# Altium footprint library TI Power Management Linear Regulator Single Channel LDO (400-7500mA).PcbLib: 56 footprints (part 2 of 4)
Each footprint in its own frame and in the unit in brackets; x right, y up, seen from the top. Pads: shape width x height; smd on the part's side, far side on the other; paste and mask are expansions set on the pad; w line width, h text height; cw(c..) or ccw(c..) is an arc to the next point about the centre after c.
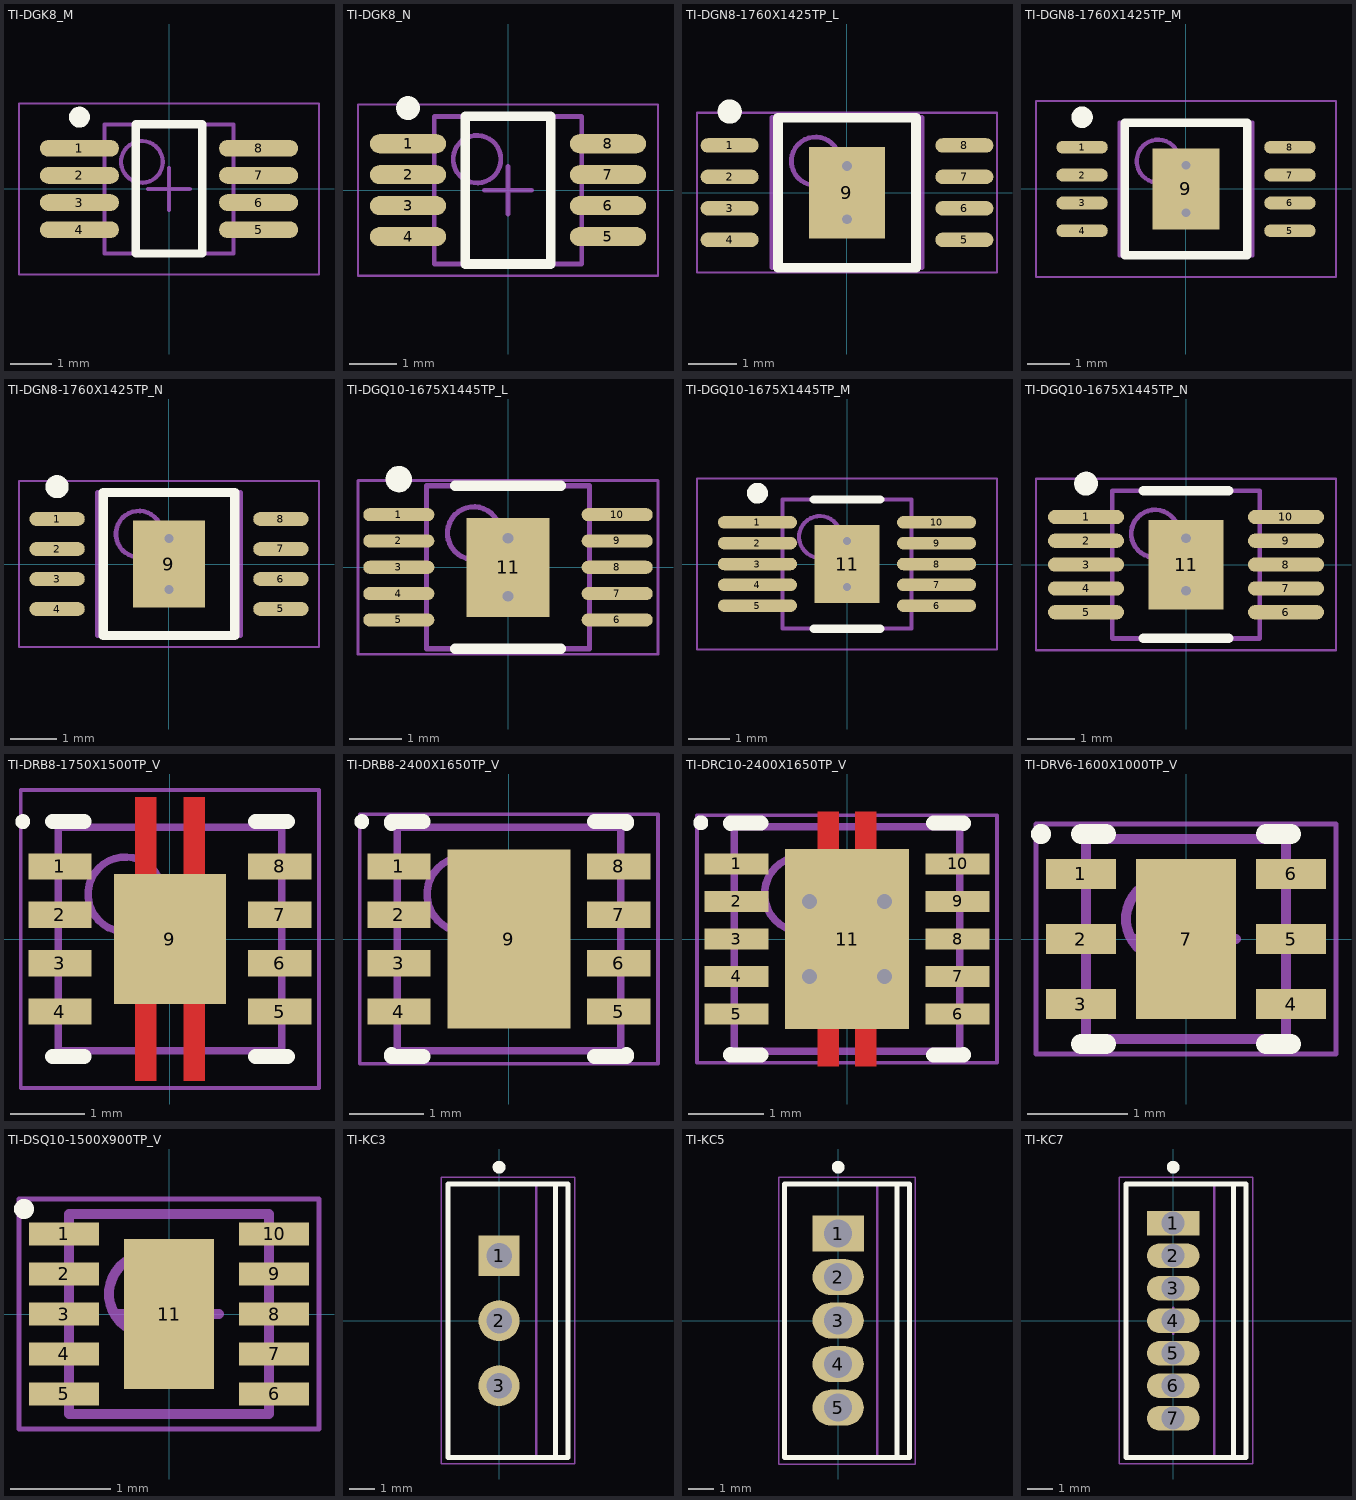
[diagram p1: the footprints below, top view; thin cyan lines are the x and y axes]

## TI-DGK8_M [mm] "SOP, 8-Leads, Body 3x3mm, Pitch 0.65mm, IPC Low Density"
height 1.1
pads (8):
  oval 1.9x0.4 smd: 1(-2.15,0.975) 2(-2.15,0.325) 3(-2.15,-0.325) 4(-2.15,-0.975) 5(2.15,-0.975) 6(2.15,-0.325) 7(2.15,0.325) 8(2.15,0.975)
Top Overlay:
  circle w0.25: c-2.15,1.725 r0.125
  lines w0.2: -0.8,-1.55 -0.8,1.55 0.8,1.55 0.8,-1.55 -0.8,-1.55
Mechanical 13:
  circle w0.1: c-0.65,0.65 r0.5
  lines w0.1: -1.55,-1.55 -1.55,1.55 1.55,1.55 1.55,-1.55 -1.55,-1.55
Mechanical 15:
  lines w0.05: -3.6,-2.05 -3.6,2.05 3.6,2.05 3.6,-2.05 -3.6,-2.05
  lines w0.1: -0.5,0 0.5,0 ; 0,-0.5 0,0.5
3D body: height 1.1, standoff 0.05, extent -1.55,-1.55 1.55,1.55

## TI-DGK8_N [mm] "SOP, 8-Leads, Body 3x3mm, Pitch 0.65mm, IPC Medium Density"
height 1.1
pads (8):
  oval 1.6x0.4 smd: 1(-2.1,0.975) 2(-2.1,0.325) 3(-2.1,-0.325) 4(-2.1,-0.975) 5(2.1,-0.975) 6(2.1,-0.325) 7(2.1,0.325) 8(2.1,0.975)
Top Overlay:
  circle w0.25: c-2.1,1.725 r0.125
  lines w0.2: -0.9,-1.55 0.9,-1.55 0.9,1.55 -0.9,1.55 -0.9,-1.55
Mechanical 13:
  circle w0.1: c-0.65,0.65 r0.5
  lines w0.1: -1.55,-1.55 1.55,-1.55 1.55,1.55 -1.55,1.55 -1.55,-1.55
Mechanical 15:
  lines w0.05: -3.15,-1.8 3.15,-1.8 3.15,1.8 -3.15,1.8 -3.15,-1.8
  lines w0.1: -0.5,0 0.5,0 ; 0,-0.5 0,0.5
3D body: height 1.1, standoff 0.05, extent -1.55,-1.55 1.55,1.55

## TI-DGN8-1760X1425TP_L [mm] "SOIC, 8-Leads, Body 3x3mm, Pitch 0.65mm, Thermal Pad 1.76x1.425mm, IPC High Density"
height 1.1
pads (9):
  oval 1.2x0.3 smd: 1(-2.425,0.975) 2(-2.425,0.325) 3(-2.425,-0.325) 4(-2.425,-0.975) 5(2.425,-0.975) 6(2.425,-0.325) 7(2.425,0.325) 8(2.425,0.975)
  rect 1.57x1.89 smd: 9(0,0)
via 0,-0.55 diameter 0.5 hole 0.2
via 0,0.55 diameter 0.5 hole 0.2
Top Overlay:
  circle w0.25: c-2.425,1.675 r0.125
  lines w0.2: -1.425,-1.55 1.425,-1.55 1.425,1.55 -1.425,1.55 -1.425,-1.55
Mechanical 13:
  circle w0.1: c-0.65,0.65 r0.5
  lines w0.1: -1.55,-1.55 1.55,-1.55 1.55,1.55 -1.55,1.55 -1.55,-1.55
Mechanical 15:
  lines w0.05: -3.1,-1.65 3.1,-1.65 3.1,1.65 -3.1,1.65 -3.1,-1.65
  lines w0.1: -0.5,0 0.5,0 ; 0,-0.5 0,0.5
3D body: height 1.1, standoff 0.05, extent -1.55,-1.55 1.55,1.55

## TI-DGN8-1760X1425TP_M [mm] "SOIC, 8-Leads, Body 3x3mm, Pitch 0.65mm, Thermal Pad 1.76x1.425mm, IPC Low Density"
height 1.1
pads (9):
  oval 1.2x0.3 smd: 1(-2.425,0.975) 2(-2.425,0.325) 3(-2.425,-0.325) 4(-2.425,-0.975) 5(2.425,-0.975) 6(2.425,-0.325) 7(2.425,0.325) 8(2.425,0.975)
  rect 1.57x1.89 smd: 9(0,0)
via 0,-0.55 diameter 0.5 hole 0.2
via 0,0.55 diameter 0.5 hole 0.2
Top Overlay:
  circle w0.25: c-2.425,1.675 r0.125
  lines w0.2: -1.425,-1.55 1.425,-1.55 1.425,1.55 -1.425,1.55 -1.425,-1.55
Mechanical 13:
  circle w0.1: c-0.65,0.65 r0.5
  lines w0.1: -1.55,-1.55 1.55,-1.55 1.55,1.55 -1.55,1.55 -1.55,-1.55
Mechanical 15:
  lines w0.05: -3.5,-2.05 3.5,-2.05 3.5,2.05 -3.5,2.05 -3.5,-2.05
  lines w0.1: -0.5,0 0.5,0 ; 0,-0.5 0,0.5
3D body: height 1.1, standoff 0.05, extent -1.55,-1.55 1.55,1.55

## TI-DGN8-1760X1425TP_N [mm] "SOIC, 8-Leads, Body 3x3mm, Pitch 0.65mm, Thermal Pad 1.76x1.425mm, IPC Medium Density"
height 1.1
pads (9):
  oval 1.2x0.3 smd: 1(-2.425,0.975) 2(-2.425,0.325) 3(-2.425,-0.325) 4(-2.425,-0.975) 5(2.425,-0.975) 6(2.425,-0.325) 7(2.425,0.325) 8(2.425,0.975)
  rect 1.57x1.89 smd: 9(0,0)
via 0,-0.55 diameter 0.5 hole 0.2
via 0,0.55 diameter 0.5 hole 0.2
Top Overlay:
  circle w0.25: c-2.425,1.675 r0.125
  lines w0.2: -1.425,-1.55 1.425,-1.55 1.425,1.55 -1.425,1.55 -1.425,-1.55
Mechanical 13:
  circle w0.1: c-0.65,0.65 r0.5
  lines w0.1: -1.55,-1.55 1.55,-1.55 1.55,1.55 -1.55,1.55 -1.55,-1.55
Mechanical 15:
  lines w0.05: -3.25,-1.8 3.25,-1.8 3.25,1.8 -3.25,1.8 -3.25,-1.8
  lines w0.1: -0.5,0 0.5,0 ; 0,-0.5 0,0.5
3D body: height 1.1, standoff 0.05, extent -1.55,-1.55 1.55,1.55

## TI-DGQ10-1675X1445TP_L [mm] "SOP, 10-Leads, Body 3.0x3.0mm, Pitch 0.5mm, Thermal Pad 1.675X1.445mm, IPC High Density"
height 1.1
pads (11):
  oval 1.35x0.25 smd: 1(-2.075,1) 2(-2.075,0.5) 3(-2.075,0) 4(-2.075,-0.5) 5(-2.075,-1) 6(2.075,-1) 7(2.075,-0.5) 8(2.075,0) 9(2.075,0.5) 10(2.075,1)
  rect 1.57x1.88 smd: 11(0,0)
via 0,0.55 diameter 0.5 hole 0.2
via 0,-0.55 diameter 0.5 hole 0.2
Top Overlay:
  circle w0.25: c-2.075,1.675 r0.125
  lines w0.2: -1,-1.55 1,-1.55 ; -1,1.55 1,1.55
Mechanical 13:
  circle w0.1: c-0.65,0.65 r0.5
  lines w0.1: -1.55,-1.55 -1.55,1.55 1.55,1.55 1.55,-1.55 -1.55,-1.55
Mechanical 15:
  lines w0.05: -2.85,-1.65 -2.85,1.65 2.85,1.65 2.85,-1.65 -2.85,-1.65
  lines w0.1: -0.5,0 0.5,0 ; 0,-0.5 0,0.5
3D body: height 1.1, standoff 0.05, extent -1.55,-1.55 1.55,1.55

## TI-DGQ10-1675X1445TP_M [mm] "SOP, 10-Leads, Body 3.0x3.0mm, Pitch 0.5mm, Thermal Pad 1.675X1.445mm, IPC Low Density"
height 1.1
pads (11):
  oval 1.9x0.3 smd: 1(-2.15,1) 2(-2.15,0.5) 3(-2.15,0) 4(-2.15,-0.5) 5(-2.15,-1) 6(2.15,-1) 7(2.15,-0.5) 8(2.15,0) 9(2.15,0.5) 10(2.15,1)
  rect 1.57x1.88 smd: 11(0,0)
via 0,0.55 diameter 0.5 hole 0.2
via 0,-0.55 diameter 0.5 hole 0.2
Top Overlay:
  circle w0.25: c-2.15,1.7 r0.125
  lines w0.2: -0.8,-1.55 0.8,-1.55 ; -0.8,1.55 0.8,1.55
Mechanical 13:
  circle w0.1: c-0.65,0.65 r0.5
  lines w0.1: -1.55,-1.55 -1.55,1.55 1.55,1.55 1.55,-1.55 -1.55,-1.55
Mechanical 15:
  lines w0.05: -3.6,-2.05 -3.6,2.05 3.6,2.05 3.6,-2.05 -3.6,-2.05
  lines w0.1: -0.5,0 0.5,0 ; 0,-0.5 0,0.5
3D body: height 1.1, standoff 0.05, extent -1.55,-1.55 1.55,1.55

## TI-DGQ10-1675X1445TP_N [mm] "SOP, 10-Leads, Body 3.0x3.0mm, Pitch 0.5mm, Thermal Pad 1.675X1.445mm, IPC Medium Density"
height 1.1
pads (11):
  oval 1.6x0.3 smd: 1(-2.1,1) 2(-2.1,0.5) 3(-2.1,0) 4(-2.1,-0.5) 5(-2.1,-1) 6(2.1,-1) 7(2.1,-0.5) 8(2.1,0) 9(2.1,0.5) 10(2.1,1)
  rect 1.57x1.88 smd: 11(0,0)
via 0,-0.55 diameter 0.5 hole 0.2
via 0,0.55 diameter 0.5 hole 0.2
Top Overlay:
  circle w0.25: c-2.1,1.7 r0.125
  lines w0.2: -0.9,-1.55 0.9,-1.55 ; -0.9,1.55 0.9,1.55
Mechanical 13:
  circle w0.1: c-0.65,0.65 r0.5
  lines w0.1: -1.55,-1.55 1.55,-1.55 1.55,1.55 -1.55,1.55 -1.55,-1.55
Mechanical 15:
  lines w0.05: -3.15,-1.8 3.15,-1.8 3.15,1.8 -3.15,1.8 -3.15,-1.8
  lines w0.1: -0.5,0 0.5,0 ; 0,-0.5 0,0.5
3D body: height 1.1, standoff 0.05, extent -1.55,-1.55 1.55,1.55

## TI-DRB8-1750X1500TP_V [mm] "SON, 8-Leads, Body 3x3mm, Pitch 0.65mm, Thermal Pad 1.50 x 3.8mm"
height 1
pads (9):
  rect 0.85x0.35 smd: 1(-1.475,0.975) 2(-1.475,0.325) 3(-1.475,-0.325) 4(-1.475,-0.975) 5(1.475,-0.975) 6(1.475,-0.325) 7(1.475,0.325) 8(1.475,0.975)
  rect 1.5x1.75 smd: 9(0,0)
Top Layer:
  region: 0.185,0.875 0.185,1.9 0.465,1.9 0.465,0.875
  region: -0.185,-0.875 -0.185,-1.9 -0.465,-1.9 -0.465,-0.875
  region: 0.185,-0.875 0.185,-1.9 0.465,-1.9 0.465,-0.875
  region: -0.185,0.875 -0.185,1.9 -0.465,1.9 -0.465,0.875
Top Overlay:
  circle w0.1: c-1.975,1.575 r0.05
  lines w0.2: -1.575,-1.575 -1.15,-1.575 ; -1.575,1.575 -1.15,1.575 ; 1.15,-1.575 1.575,-1.575 ; 1.15,1.575 1.575,1.575
Top Paste:
  region: -0.185,0.875 -0.185,1.9 -0.465,1.9 -0.465,0.875
  region: 0.185,-0.875 0.185,-1.9 0.465,-1.9 0.465,-0.875
  region: -0.185,-0.875 -0.185,-1.9 -0.465,-1.9 -0.465,-0.875
  region: 0.185,0.875 0.185,1.9 0.465,1.9 0.465,0.875
Mechanical 13:
  circle w0.1: c-0.6,0.6 r0.5
  lines w0.1: -1.5,-1.5 -1.5,1.5 1.5,1.5 1.5,-1.5 -1.5,-1.5
Mechanical 15:
  lines w0.05: -2,-2 2,-2 2,-1.675 2,1.675 2,2 -2,2 -2,1.675 -2,-1.675 -2,-2
  lines w0.1: -0.5,0 0.5,0 ; 0,-0.5 0,0.5
3D body: height 1, standoff 0, extent -1.5,-1.5 1.5,1.5

## TI-DRB8-2400X1650TP_V [mm] "SON, 8-Leads, Body 3x3mm, Pitch 0.65mm, Thermal Pad 2.4x1.65mm"
height 1
pads (9):
  rect 0.85x0.35 smd: 1(-1.475,0.975) 2(-1.475,0.325) 3(-1.475,-0.325) 4(-1.475,-0.975) 5(1.475,-0.975) 6(1.475,-0.325) 7(1.475,0.325) 8(1.475,0.975)
  rect 1.65x2.4 smd: 9(0,0)
Top Overlay:
  circle w0.1: c-1.975,1.575 r0.05
  lines w0.2: -1.575,-1.55 -1.575,-1.575 -1.15,-1.575 ; -1.575,1.55 -1.575,1.575 -1.15,1.575 ; 1.15,-1.575 1.575,-1.575 1.575,-1.55 ; 1.15,1.575 1.575,1.575 1.575,1.55
Mechanical 13:
  circle w0.1: c-0.6,0.6 r0.5
  lines w0.1: -1.5,-1.5 1.5,-1.5 1.5,1.5 -1.5,1.5 -1.5,-1.5
Mechanical 15:
  lines w0.05: -2,-1.675 2,-1.675 2,1.675 -2,1.675 -2,-1.675
  lines w0.1: -0.5,0 0.5,0 ; 0,-0.5 0,0.5
3D body: height 1, standoff 0, extent -1.5,-1.5 1.5,1.5

## TI-DRC10-2400X1650TP_V [mm] "SON, 10-Leads, Body 3x3mm, Pitch 0.5mm, Thermal Pad 3x1.65mm"
height 1
pads (11):
  rect 0.85x0.28 smd: 1(-1.475,1) 2(-1.475,0.5) 3(-1.475,0) 4(-1.475,-0.5) 5(-1.475,-1) 6(1.475,-1) 7(1.475,-0.5) 8(1.475,0) 9(1.475,0.5) 10(1.475,1)
  rect 1.65x2.4 smd: 11(0,0)
via 0.5,-0.5 diameter 0.5 hole 0.2
via -0.5,-0.5 diameter 0.5 hole 0.2
via 0.5,0.5 diameter 0.5 hole 0.2
via -0.5,0.5 diameter 0.5 hole 0.2
Top Layer:
  region: 0.11,1.2 0.11,1.7 0.39,1.7 0.39,1.2
  region: -0.11,-1.2 -0.11,-1.7 -0.39,-1.7 -0.39,-1.2
  region: 0.11,-1.2 0.11,-1.7 0.39,-1.7 0.39,-1.2
  region: -0.11,1.2 -0.11,1.7 -0.39,1.7 -0.39,1.2
Top Overlay:
  circle w0.1: c-1.95,1.55 r0.05
  lines w0.2: -1.55,-1.54 -1.55,-1.55 -1.15,-1.55 ; -1.55,1.54 -1.55,1.55 -1.15,1.55 ; 1.15,-1.55 1.55,-1.55 1.55,-1.54 ; 1.15,1.55 1.55,1.55 1.55,1.54
Top Paste:
  region: 0.11,1.2 0.11,1.7 0.39,1.7 0.39,1.2
  region: -0.11,-1.2 -0.11,-1.7 -0.39,-1.7 -0.39,-1.2
  region: 0.11,-1.2 0.11,-1.7 0.39,-1.7 0.39,-1.2
  region: -0.11,1.2 -0.11,1.7 -0.39,1.7 -0.39,1.2
Mechanical 13:
  circle w0.1: c-0.6,0.6 r0.5
  lines w0.1: -1.5,-1.5 1.5,-1.5 1.5,1.5 -1.5,1.5 -1.5,-1.5
Mechanical 15:
  lines w0.05: -2,-1.65 2,-1.65 2,1.65 -2,1.65 -2,-1.65
  lines w0.1: -0.5,0 0.5,0 ; 0,-0.5 0,0.5
3D body: height 1, standoff 0, extent -1.5,-1.5 1.5,1.5

## TI-DRV6-1600X1000TP_V [mm] "SON, 6-Leads, Body 2x2mm, Pitch 0.65mm, Thermal Pad 1X1.6mm"
height 0.8
pads (7):
  rect 0.7x0.3 smd: 1(-1.05,0.65) 2(-1.05,0) 3(-1.05,-0.65) 4(1.05,-0.65) 5(1.05,0) 6(1.05,0.65)
  rect 1x1.6 smd: 7(0,0)
Top Overlay:
  circle w0.1: c-1.45,1.05 r0.05
  lines w0.2: -1.05,-1.05 -0.8,-1.05 ; -1.05,1.05 -0.8,1.05 ; 0.8,-1.05 1.05,-1.05 ; 0.8,1.05 1.05,1.05
Mechanical 13:
  circle w0.1: c-0.2,0.2 r0.4
  lines w0.1: -1,-1 -1,1 1,1 1,-1 -1,-1
Mechanical 15:
  lines w0.05: -1.5,-1.15 -1.5,1.15 1.5,1.15 1.5,-1.15 -1.5,-1.15
  lines w0.1: -0.5,0 0.5,0 ; 0,-0.5 0,0.5
3D body: height 0.8, standoff 0, extent -1,-1 1,1

## TI-DSQ10-1500X900TP_V [mm] "SON, 10-Leads, Body 2x2mm, Pitch 0.4mm, Thermal Pad 1.5x0.9mm"
height 0.8
pads (11):
  rect 0.7x0.23 smd: 1(-1.05,0.8) 2(-1.05,0.4) 3(-1.05,0) 4(-1.05,-0.4) 5(-1.05,-0.8) 6(1.05,-0.8) 7(1.05,-0.4) 8(1.05,0) 9(1.05,0.4) 10(1.05,0.8)
  rect 0.9x1.5 smd: 11(0,0)
Top Overlay:
  circle w0.1: c-1.45,1.05 r0.05
Mechanical 13:
  circle w0.1: c-0.2,0.2 r0.4
  lines w0.1: -1,-1 1,-1 1,1 -1,1 -1,-1
Mechanical 15:
  lines w0.05: -1.5,-1.15 1.5,-1.15 1.5,1.15 -1.5,1.15 -1.5,-1.15
  lines w0.1: -0.5,0 0.5,0 ; 0,-0.5 0,0.5
3D body: height 0.8, standoff 0, extent -1,-1 1,1

## TI-KC3 [mm] "Flange Mount, 3-Leads, Body 10.16x4.51mm, Pitch 2.54mm"
height 22.86
pads (3):
  rect 1.6x1.6 hole 1: 1(0,2.54)
  round 1.6 hole 1: 2(0,0) 3(0,-2.54)
Top Overlay:
  circle w0.25: c0,6 r0.125
  lines w0.2: 2.2,-5.35 2.2,5.35 ; -2,-5.35 2.7,-5.35 2.7,5.35 -2,5.35 -2,-5.35
Mechanical 13:
  lines w0.1: 1.45,-5.35 1.45,5.35 ; -2,-5.35 -2,5.35 2.7,5.35 2.7,-5.35 -2,-5.35
Mechanical 15:
  lines w0.05: -2.25,-5.6 -2.25,5.6 2.95,5.6 2.95,-5.6 -2.25,-5.6
  lines w0.1: -0.5,0 0.5,0 ; 0,-0.5 0,0.5
3D body: height 6.35, standoff 0, extent -0.23,1.81 0.23,3.27
3D body: height 0, standoff -1.6, extent -0.23,2.14 0.23,2.94
3D body: height 6.35, standoff 0, extent -0.23,-0.73 0.23,0.73
3D body: height 0, standoff -1.6, extent -0.23,-0.4 0.23,0.4
3D body: height 6.35, standoff 0, extent -0.23,-3.27 0.23,-1.81
3D body: height 0, standoff -1.6, extent -0.23,-2.94 0.23,-2.14
3D body: height 16.51, standoff 6.35, extent -2,-5.35 2.7,5.35
3D body: height 18.14, standoff 16.51, extent 1.45,-5.075 2.7,5.075
3D body: height 18.18, standoff 18.14, extent 1.45,0.376 2.7,5.075
3D body: height 18.18, standoff 18.14, extent 1.45,-5.075 2.7,-0.376
3D body: height 21.99, standoff 21.95, extent 1.45,0.376 2.7,5.075
3D body: height 21.99, standoff 21.95, extent 1.45,-5.075 2.7,-0.376
3D body: height 18.29, standoff 18.17, extent 1.45,0.737 2.7,5.075
3D body: height 18.29, standoff 18.17, extent 1.45,-5.075 2.7,-0.737
3D body: height 21.95, standoff 21.84, extent 1.45,0.737 2.7,5.075
3D body: height 21.95, standoff 21.84, extent 1.45,-5.075 2.7,-0.737
3D body: height 18.46, standoff 18.28, extent 1.45,1.069 2.7,5.075
3D body: height 18.46, standoff 18.28, extent 1.45,-5.075 2.7,-1.069
3D body: height 21.84, standoff 21.66, extent 1.45,1.069 2.7,5.075
3D body: height 21.84, standoff 21.66, extent 1.45,-5.075 2.7,-1.069
3D body: height 18.7, standoff 18.46, extent 1.45,1.361 2.7,5.075
3D body: height 18.7, standoff 18.46, extent 1.45,-5.075 2.7,-1.361
3D body: height 21.67, standoff 21.42, extent 1.45,1.361 2.7,5.075
3D body: height 21.67, standoff 21.42, extent 1.45,-5.075 2.7,-1.361
3D body: height 19, standoff 18.7, extent 1.45,1.601 2.7,5.075
3D body: height 19, standoff 18.7, extent 1.45,-5.075 2.7,-1.601
3D body: height 21.43, standoff 21.13, extent 1.45,1.601 2.7,5.075
3D body: height 21.43, standoff 21.13, extent 1.45,-5.075 2.7,-1.601
3D body: height 19.33, standoff 18.99, extent 1.45,1.778 2.7,5.075
3D body: height 19.33, standoff 18.99, extent 1.45,-5.075 2.7,-1.778
3D body: height 21.13, standoff 20.8, extent 1.45,1.778 2.7,5.075
3D body: height 21.13, standoff 20.8, extent 1.45,-5.075 2.7,-1.778
3D body: height 19.69, standoff 19.32, extent 1.45,1.888 2.7,5.075
3D body: height 19.69, standoff 19.32, extent 1.45,-5.075 2.7,-1.888
3D body: height 20.8, standoff 20.44, extent 1.45,1.888 2.7,5.075
3D body: height 20.8, standoff 20.44, extent 1.45,-5.075 2.7,-1.888
3D body: height 20.06, standoff 19.68, extent 1.45,1.925 2.7,5.075
3D body: height 20.06, standoff 19.68, extent 1.45,-5.075 2.7,-1.925
3D body: height 20.44, standoff 20.06, extent 1.45,1.925 2.7,5.075
3D body: height 20.44, standoff 20.06, extent 1.45,-5.075 2.7,-1.925
3D body: height 22.86, standoff 21.99, extent 1.45,-5.075 2.7,5.075

## TI-KC5 [mm] "FM, 5-Leads, Body 10.16x8.46mm, Pitch 1.7mm,"
height 16.51
pads (5):
  rect 2x1.4 hole 1.1: 1(0,3.405)
  oval 2x1.4 hole 1.1: 2(0,1.705) 3(0,0.005) 4(0,-1.695) 5(0,-3.395)
Top Overlay:
  circle w0.25: c0,6 r0.125
  lines w0.2: 2.295,-5.35 2.295,5.35 ; -2.105,-5.35 2.795,-5.35 2.795,5.35 -2.105,5.35 -2.105,-5.35
Mechanical 13:
  lines w0.1: 1.52,-5.35 1.52,5.35 ; -2.08,-5.35 -2.08,5.35 2.77,5.35 2.77,-5.35 -2.08,-5.35
Mechanical 15:
  lines w0.05: -2.33,-5.6 -2.33,5.6 3.02,5.6 3.02,-5.6 -2.33,-5.6
  lines w0.1: -0.5,0 0.5,0 ; 0,-0.5 0,0.5
3D body: height 0, standoff -1.6, extent -0.23,2.99 0.23,3.82
3D body: height 0, standoff -1.6, extent -0.23,1.29 0.23,2.12
3D body: height 0, standoff -1.6, extent -0.23,-0.41 0.23,0.42
3D body: height 0, standoff -1.6, extent -0.23,-2.11 0.23,-1.28
3D body: height 0, standoff -1.6, extent -0.23,-3.81 0.23,-2.98
3D body: height 10.21, standoff 0, extent -2.08,-5.35 2.77,5.35
3D body: height 11.79, standoff 10.21, extent 1.52,-5.075 2.77,5.075
3D body: height 11.83, standoff 11.79, extent 1.52,0.376 2.77,5.075
3D body: height 11.83, standoff 11.79, extent 1.52,-5.075 2.77,-0.376
3D body: height 15.64, standoff 15.6, extent 1.52,0.376 2.77,5.075
3D body: height 15.64, standoff 15.6, extent 1.52,-5.075 2.77,-0.376
3D body: height 11.94, standoff 11.82, extent 1.52,0.737 2.77,5.075
3D body: height 11.94, standoff 11.82, extent 1.52,-5.075 2.77,-0.737
3D body: height 15.6, standoff 15.49, extent 1.52,0.737 2.77,5.075
3D body: height 15.6, standoff 15.49, extent 1.52,-5.075 2.77,-0.737
3D body: height 12.11, standoff 11.93, extent 1.52,1.069 2.77,5.075
3D body: height 12.11, standoff 11.93, extent 1.52,-5.075 2.77,-1.069
3D body: height 15.49, standoff 15.31, extent 1.52,1.069 2.77,5.075
3D body: height 15.49, standoff 15.31, extent 1.52,-5.075 2.77,-1.069
3D body: height 12.35, standoff 12.11, extent 1.52,1.361 2.77,5.075
3D body: height 12.35, standoff 12.11, extent 1.52,-5.075 2.77,-1.361
3D body: height 15.32, standoff 15.07, extent 1.52,1.361 2.77,5.075
3D body: height 15.32, standoff 15.07, extent 1.52,-5.075 2.77,-1.361
3D body: height 12.65, standoff 12.35, extent 1.52,1.601 2.77,5.075
3D body: height 12.65, standoff 12.35, extent 1.52,-5.075 2.77,-1.601
3D body: height 15.08, standoff 14.78, extent 1.52,1.601 2.77,5.075
3D body: height 15.08, standoff 14.78, extent 1.52,-5.075 2.77,-1.601
3D body: height 12.98, standoff 12.64, extent 1.52,1.778 2.77,5.075
3D body: height 12.98, standoff 12.64, extent 1.52,-5.075 2.77,-1.778
3D body: height 14.78, standoff 14.45, extent 1.52,1.778 2.77,5.075
3D body: height 14.78, standoff 14.45, extent 1.52,-5.075 2.77,-1.778
3D body: height 13.34, standoff 12.97, extent 1.52,1.888 2.77,5.075
3D body: height 13.34, standoff 12.97, extent 1.52,-5.075 2.77,-1.888
3D body: height 14.45, standoff 14.09, extent 1.52,1.888 2.77,5.075
3D body: height 14.45, standoff 14.09, extent 1.52,-5.075 2.77,-1.888
3D body: height 13.71, standoff 13.33, extent 1.52,1.925 2.77,5.075
3D body: height 13.71, standoff 13.33, extent 1.52,-5.075 2.77,-1.925
3D body: height 14.09, standoff 13.71, extent 1.52,1.925 2.77,5.075
3D body: height 14.09, standoff 13.71, extent 1.52,-5.075 2.77,-1.925
3D body: height 16.51, standoff 15.64, extent 1.52,-5.075 2.77,5.075

## TI-KC7 [mm] "Flange Mount, 7-Leads, Body 10.16x4.58mm, Pitch 1.27mm"
height 15.11
pads (7):
  rect 2.05x0.95 hole 0.9: 1(0,3.81)
  oval 2.05x0.95 hole 0.9: 2(0,2.54) 3(0,1.27) 4(0,0) 5(0,-1.27) 6(0,-2.54) 7(0,-3.81)
Top Overlay:
  circle w0.25: c0,6 r0.125
  lines w0.2: 2.35,-5.35 2.35,5.35 ; -1.85,-5.35 -1.85,5.35 2.85,5.35 2.85,-5.35 -1.85,-5.35
Mechanical 13:
  lines w0.1: 1.6,-5.35 1.6,5.35 ; -1.85,-5.35 2.85,-5.35 2.85,5.35 -1.85,5.35 -1.85,-5.35
Mechanical 15:
  lines w0.05: -2.1,-5.6 3.1,-5.6 3.1,5.6 -2.1,5.6 -2.1,-5.6
  lines w0.1: -0.5,0 0.5,0 ; 0,-0.5 0,0.5
3D body: height 15.11, standoff 14.29, extent 1.6,-5.075 2.85,5.075
3D body: height 12.74, standoff 12.36, extent 1.6,-5.075 2.85,-1.925
3D body: height 12.74, standoff 12.36, extent 1.6,1.925 2.85,5.075
3D body: height 12.36, standoff 11.98, extent 1.6,-5.075 2.85,-1.925
3D body: height 12.36, standoff 11.98, extent 1.6,1.925 2.85,5.075
3D body: height 13.1, standoff 12.74, extent 1.6,-5.075 2.85,-1.888
3D body: height 13.1, standoff 12.74, extent 1.6,1.888 2.85,5.075
3D body: height 11.99, standoff 11.62, extent 1.6,-5.075 2.85,-1.888
3D body: height 11.99, standoff 11.62, extent 1.6,1.888 2.85,5.075
3D body: height 13.43, standoff 13.1, extent 1.6,-5.075 2.85,-1.778
3D body: height 13.43, standoff 13.1, extent 1.6,1.778 2.85,5.075
3D body: height 11.63, standoff 11.29, extent 1.6,-5.075 2.85,-1.778
3D body: height 11.63, standoff 11.29, extent 1.6,1.778 2.85,5.075
3D body: height 13.73, standoff 13.43, extent 1.6,-5.075 2.85,-1.601
3D body: height 13.73, standoff 13.43, extent 1.6,1.601 2.85,5.075
3D body: height 11.3, standoff 11, extent 1.6,-5.075 2.85,-1.601
3D body: height 11.3, standoff 11, extent 1.6,1.601 2.85,5.075
3D body: height 13.97, standoff 13.72, extent 1.6,-5.075 2.85,-1.361
3D body: height 13.97, standoff 13.72, extent 1.6,1.361 2.85,5.075
3D body: height 11, standoff 10.76, extent 1.6,-5.075 2.85,-1.361
3D body: height 11, standoff 10.76, extent 1.6,1.361 2.85,5.075
3D body: height 14.14, standoff 13.96, extent 1.6,-5.075 2.85,-1.069
3D body: height 14.14, standoff 13.96, extent 1.6,1.069 2.85,5.075
3D body: height 10.76, standoff 10.58, extent 1.6,-5.075 2.85,-1.069
3D body: height 10.76, standoff 10.58, extent 1.6,1.069 2.85,5.075
3D body: height 14.25, standoff 14.14, extent 1.6,-5.075 2.85,-0.737
3D body: height 14.25, standoff 14.14, extent 1.6,0.737 2.85,5.075
3D body: height 10.59, standoff 10.47, extent 1.6,-5.075 2.85,-0.737
3D body: height 10.59, standoff 10.47, extent 1.6,0.737 2.85,5.075
3D body: height 14.29, standoff 14.25, extent 1.6,-5.075 2.85,-0.376
3D body: height 14.29, standoff 14.25, extent 1.6,0.376 2.85,5.075
3D body: height 10.48, standoff 10.44, extent 1.6,-5.075 2.85,-0.376
3D body: height 10.48, standoff 10.44, extent 1.6,0.376 2.85,5.075
3D body: height 10.44, standoff 8.76, extent 1.6,-5.075 2.85,5.075
3D body: height 8.76, standoff 0, extent -1.85,-5.35 2.85,5.35
3D body: height 0, standoff -1.6, extent -0.235,-4.165 0.235,-3.455
3D body: height 0, standoff -1.6, extent -0.235,-2.895 0.235,-2.185
3D body: height 0, standoff -1.6, extent -0.235,-1.625 0.235,-0.915
3D body: height 0, standoff -1.6, extent -0.235,-0.355 0.235,0.355
3D body: height 0, standoff -1.6, extent -0.235,0.915 0.235,1.625
3D body: height 0, standoff -1.6, extent -0.235,2.185 0.235,2.895
3D body: height 0, standoff -1.6, extent -0.235,3.455 0.235,4.165